# EAGLE library part R5F564MFDDFP (library systas0)
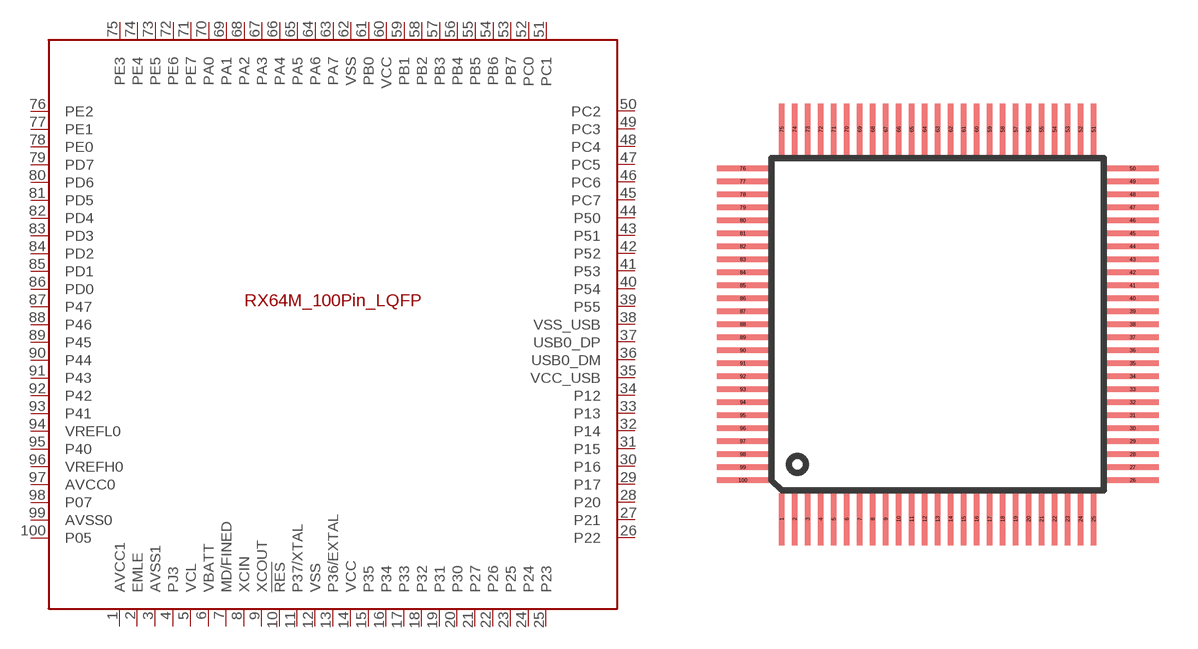
[diagram p27: symbol with the pads of LQFP100; footprint LQFP100]

Designator prefix -

## R5F564MFDDFP  [LQFP100]
1  AVCC1
2  EMLE
3  AVSS1
4  PJ3
5  VCL
6  VBATT
7  MD/FINED
8  XCIN
9  XCOUT
10  !RES
11  P37/XTAL
12  VSS
13  P36/EXTAL
14  VCC
15  P35
16  P34
17  P33
18  P32
19  P31
20  P30
21  P27
22  P26
23  P25
24  P24
25  P23
26  P22
27  P21
28  P20
29  P17
30  P16
31  P15
32  P14
33  P13
34  P12
35  VCC_USB
36  USB0_DM
37  USB0_DP
38  VSS_USB
39  P55
40  P54
41  P53
42  P52
43  P51
44  P50
45  PC7
46  PC6
47  PC5
48  PC4
49  PC3
50  PC2
51  PC1
52  PC0
53  PB7
54  PB6
55  PB5
56  PB4
57  PB3
58  PB2
59  PB1
60  VCC
61  PB0
62  VSS
63  PA7
64  PA6
65  PA5
66  PA4
67  PA3
68  PA2
69  PA1
70  PA0
71  PE7
72  PE6
73  PE5
74  PE4
75  PE3
76  PE2
77  PE1
78  PE0
79  PD7
80  PD6
81  PD5
82  PD4
83  PD3
84  PD2
85  PD1
86  PD0
87  P47
88  P46
89  P45
90  P44
91  P43
92  P42
93  P41
94  VREFL0
95  P40
96  VREFH0
97  AVCC0
98  P07
99  AVSS0
100  P05

## Footprint LQFP100 (pad centres in mm)
smd 0.22 x 2: 1 -6.5,-7; 2 -6,-7; 3 -5.5,-7; 4 -5,-7; 5 -4.5,-7; 6 -4,-7; 7 -3.5,-7; 8 -3,-7; 9 -2.5,-7; 10 -2,-7; 11 -1.5,-7; 12 -1,-7; 13 -0.5,-7; 14 0,-7; 15 0.5,-7; 16 1,-7; 17 1.5,-7; 18 2,-7; 19 2.5,-7; 20 3,-7; 21 3.5,-7; 22 4,-7; 23 4.5,-7; 24 5,-7; 25 5.5,-7; 51 5.5,8; 52 5,8; 53 4.5,8; 54 4,8; 55 3.5,8; 56 3,8; 57 2.5,8; 58 2,8; 59 1.5,8; 60 1,8; 61 0.5,8; 62 0,8; 63 -0.5,8; 64 -1,8; 65 -1.5,8; 66 -2,8; 67 -2.5,8; 68 -3,8; 69 -3.5,8; 70 -4,8; 71 -4.5,8; 72 -5,8; 73 -5.5,8; 74 -6,8; 75 -6.5,8
smd 2 x 0.22: 26 7,-5.5; 27 7,-5; 28 7,-4.5; 29 7,-4; 30 7,-3.5; 31 7,-3; 32 7,-2.5; 33 7,-2; 34 7,-1.5; 35 7,-1; 36 7,-0.5; 37 7,0; 38 7,0.5; 39 7,1; 40 7,1.5; 41 7,2; 42 7,2.5; 43 7,3; 44 7,3.5; 45 7,4; 46 7,4.5; 47 7,5; 48 7,5.5; 49 7,6; 50 7,6.5; 76 -8,6.5; 77 -8,6; 78 -8,5.5; 79 -8,5; 80 -8,4.5; 81 -8,4; 82 -8,3.5; 83 -8,3; 84 -8,2.5; 85 -8,2; 86 -8,1.5; 87 -8,1; 88 -8,0.5; 89 -8,0; 90 -8,-0.5; 91 -8,-1; 92 -8,-1.5; 93 -8,-2; 94 -8,-2.5; 95 -8,-3; 96 -8,-3.5; 97 -8,-4; 98 -8,-4.5; 99 -8,-5; 100 -8,-5.5